# Altium footprint library OCP2PCIe-H-F-4.PcbLib: 32 footprints (part 2 of 2)
Each footprint in its own frame and in the unit in brackets; x right, y up, seen from the top. Pads: shape width x height; smd on the part's side, far side on the other; paste and mask are expansions set on the pad; w line width, h text height; cw(c..) or ccw(c..) is an arc to the next point about the centre after c.
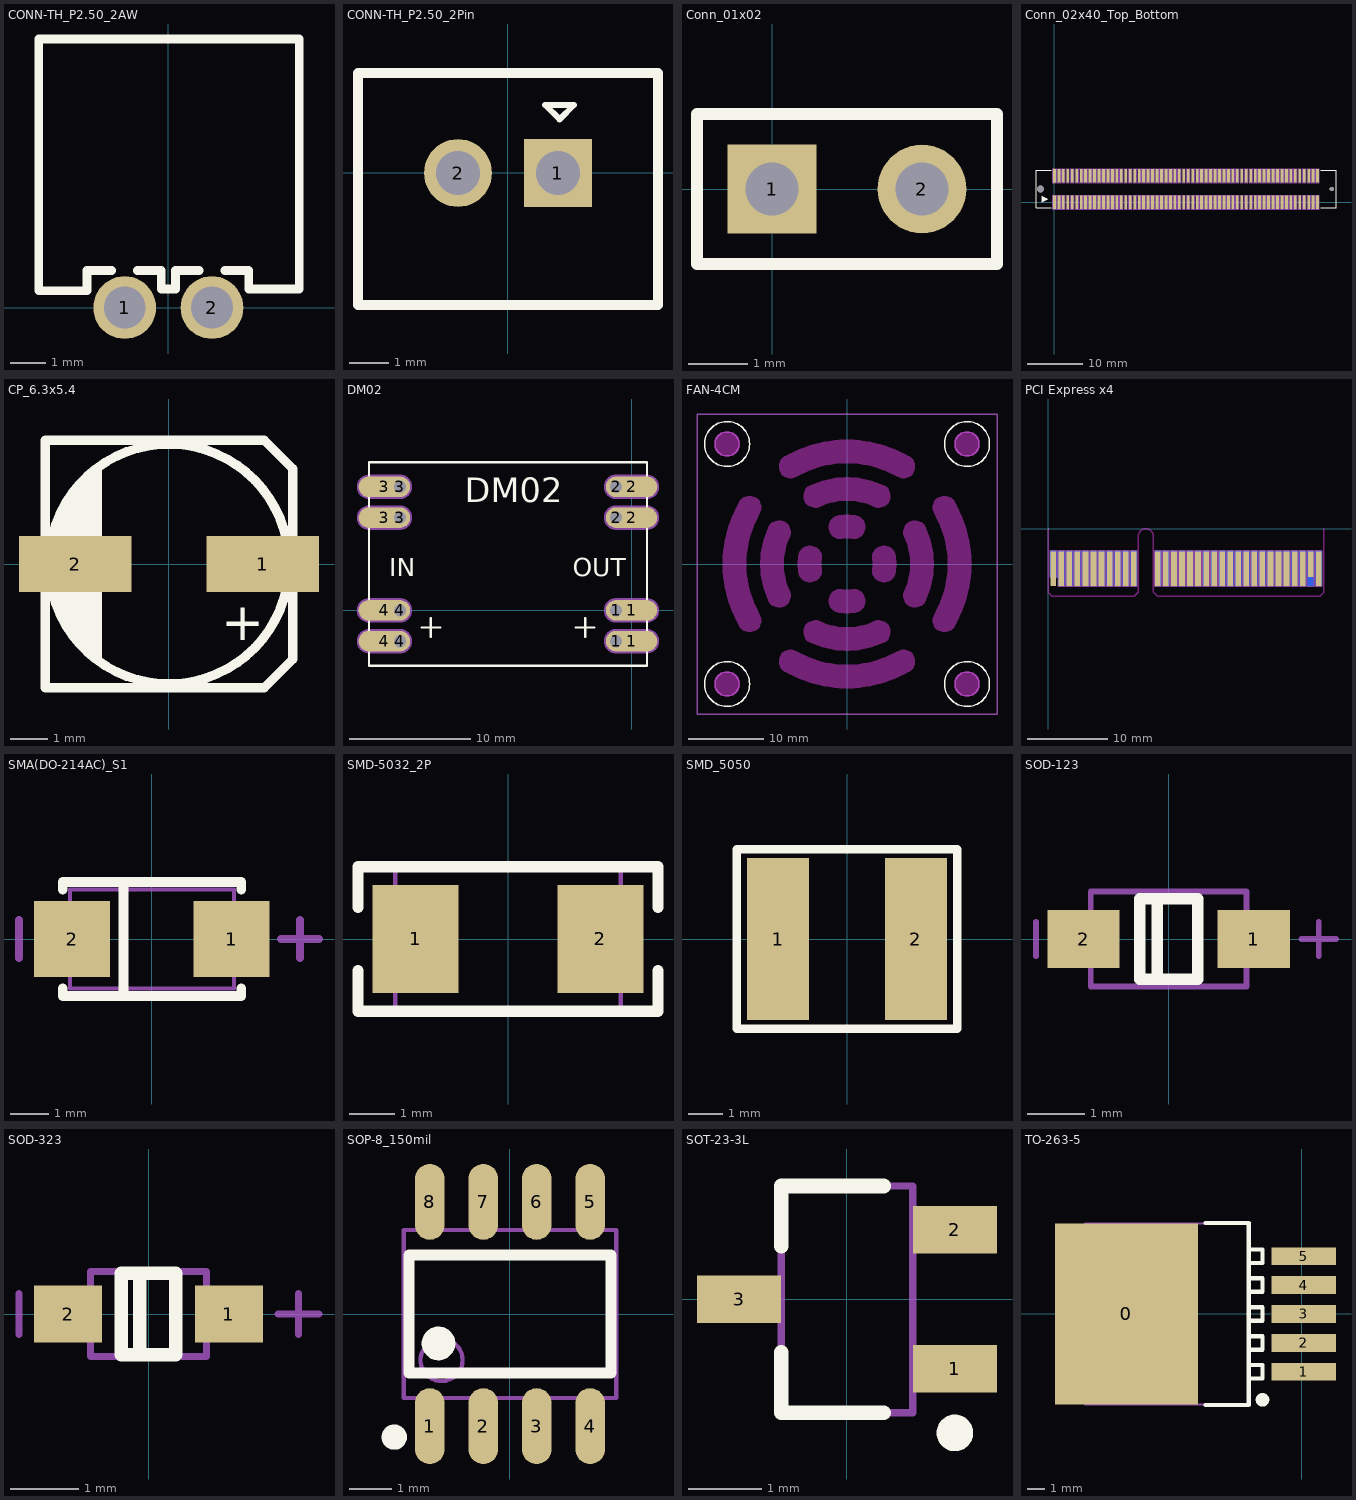
[diagram p1: the footprints below, top view; thin cyan lines are the x and y axes]

## CONN-TH_P2.50_2AW [mm]
pads (2):
  round 1.8 hole 1.199: 1(-1.251,0) 2(1.251,0)
Top Overlay:
  lines w0.254: -3.715,0.483 -2.767,0.483 -2.336,0.483 -2.336,1.067 -1.622,1.067 ; -3.715,0.533 -3.715,7.696 3.753,7.696 3.753,0.533 2.305,0.533 2.305,1.067 1.622,1.067 ; -0.88,1.067 -0.202,1.067 -0.202,0.533 0.204,0.533 0.204,0.991 ; 0.197,1.067 0.88,1.067
3D body "User Library-JST-XH-2_5mm-2.STEP": height 5.95, standoff -3.35, extent -3.686,-0.157 3.814,7.483

## CONN-TH_P2.50_2Pin [mm]
pads (2):
  rect 1.7x1.7 hole 1.1: 1(1.25,0)
  round 1.7 hole 1.1: 2(-1.25,0)
Top Overlay:
  lines w0.15: 0.93,1.7 1.29,1.34 1.65,1.7 0.93,1.7
  lines w0.254: -3.75,-3.3 3.75,-3.3 3.75,2.5 -3.75,2.5 -3.75,-3.3
3D body "User Library-B2B-XH-A.STEP": height 7.1, standoff -3.3, extent -3.733,-3.411 3.667,2.339

## Conn_01x02 [mm] "Connector; Header; 2 Position"
height 3.7
pads (2):
  rect 1.5x1.5 hole 0.9: 1(0,0)
  round 1.5 hole 0.9: 2(2.54,0)
Top Overlay:
  lines w0.2: -1.27,-1.27 -1.27,1.27 3.81,1.27 3.81,-1.27 -1.27,-1.27

## Conn_02x40_Top_Bottom [mm] "Conn_02x40_Top_Bottom"
height 3.7
pads (121):
  rect 0.5x2.4 smd: 1(0,0) 2(0.8,0) 3(1.6,0) 4(2.4,0) 5(3.2,0) 6(4,0) 7(4.8,0) 8(5.6,0) 9(6.4,0) 10(7.2,0) 11(8,0) 12(8.8,0) 13(9.6,0) 14(10.4,0) 15(11.2,0) 16(12,0) 17(12.8,0) 18(13.6,0) 19(14.4,0) 20(15.2,0) 21(16,0) 22(16.8,0) 23(17.6,0) 24(18.4,0) 25(19.2,0) 26(20,0) 27(20.8,0) 28(21.6,0) 29(22.4,0) 30(23.2,0) 31(24,0) 32(24.8,0) 33(25.6,0) 34(26.4,0) 35(27.2,0) 36(28,0) 37(28.8,0) 38(29.6,0) 39(30.4,0) 40(31.2,0) 41(32,0) 42(32.8,0) 43(33.6,0) 44(34.4,0) 45(35.2,0) 46(36,0) 47(36.8,0) 48(37.6,0) 49(38.4,0) 50(39.2,0) 51(40,0) 52(40.8,0) 53(41.6,0) 54(42.4,0) 55(43.2,0) 56(44,0) 57(44.8,0) 58(45.6,0) 59(46.4,0) 60(47.2,0) 61(0,4.8) 61(0,4.8) 62(0.8,4.8) 63(1.6,4.8) 64(2.4,4.8) 65(3.2,4.8) 66(4,4.8) 67(4.8,4.8) 68(5.6,4.8) 69(6.4,4.8) 70(7.2,4.8) 71(8,4.8) 72(8.8,4.8) 73(9.6,4.8) 74(10.4,4.8) 75(11.2,4.8) 76(12,4.8) 77(12.8,4.8) 78(13.6,4.8) 79(14.4,4.8) 80(15.2,4.8) 81(16,4.8) 82(16.8,4.8) 83(17.6,4.8) 84(18.4,4.8) 85(19.2,4.8) 86(20,4.8) 87(20.8,4.8) 88(21.6,4.8) 89(22.4,4.8) 90(23.2,4.8) 91(24,4.8) 92(24.8,4.8) 93(25.6,4.8) 94(26.4,4.8) 95(27.2,4.8) 96(28,4.8) 97(28.8,4.8) 98(29.6,4.8) 99(30.4,4.8) 100(31.2,4.8) 101(32,4.8) 102(32.8,4.8) 103(33.6,4.8) 104(34.4,4.8) 105(35.2,4.8) 106(36,4.8) 107(36.8,4.8) 108(37.6,4.8) 109(38.4,4.8) 110(39.2,4.8) 111(40,4.8) 112(40.8,4.8) 113(41.6,4.8) 114(42.4,4.8) 115(43.2,4.8) 116(44,4.8) 117(44.8,4.8) 118(45.6,4.8) 119(46.4,4.8) 120(47.2,4.8)
via -2.5,2.4 diameter 1.2 hole 1.2
via 49.7,2.4 diameter 0.8 hole 0.8
Top Overlay:
  lines w0.2: -0.6,-1 -3.3,-1 -3.3,5.8 -0.6,5.8 ; 47.801,-1 50.5,-1 50.5,5.8 47.801,5.8
  text "▶" at -2.284,-0.296 h2
Mechanical 3:
  drawing of 480 lines, arcs and shapes, not listed
3D body "5084616-5.stp": height 11.8, standoff -0.45, extent -3.3,-1 50.5,5.8
3D body: height 0.25, standoff 0, extent 8.636,2.413 8.636,2.413

## CP_6.3x5.4 [mm] "贴片铝电解 6.3x5.4"
pads (2):
  rect 3x1.5 smd: 1(2.502,0) 2(-2.502,0)
Top Overlay:
  circle w0.25: c0,0 r3.2
  region: -1.8,2.7 -1.8,-2.7 -2.9,-1.5 -3.2,0 -2.9,1.4
  lines w0.25: -3.302,-3.302 -3.302,3.302 2.54,3.302 3.302,2.54 3.302,-2.54 2.54,-3.302 -3.302,-3.302
  text "+" at 1.397,-2.032 h1
3D body "User Library-CAP SMD SVP 6_3x5_9.STEP": height 5.9, standoff 0, extent -3.65,-3.3 3.65,3.3

## DM02 [mm]
pads (16):
  round 1.7 hole 1: 1(-1.27,-2.54) 1(-1.27,0) 2(-1.27,7.62) 2(-1.27,10.16) 3(-19.05,7.62) 3(-19.05,10.16) 4(-19.05,-2.54) 4(-19.05,0)
  oval 4.24x1.7 smd: 1(0,-2.54) 1(0,0) 2(0,7.62) 2(0,10.16) 3(-20.32,7.62) 3(-20.32,10.16) 4(-20.32,-2.54) 4(-20.32,0)
Top Overlay:
  lines w0.2: -17.272,-1.413 -15.748,-1.413 ; -16.51,-2.175 -16.51,-0.651 ; -4.572,-1.413 -3.048,-1.413 ; -3.81,-2.175 -3.81,-0.651 ; -21.59,-4.54 1.27,-4.54 1.27,12.16 -21.59,12.16 -21.59,-4.54
  text "OUT" at -4.826,2.794 h1.5
  text "IN" at -19.939,2.794 h1.5
  text "DM02" at -13.716,8.89 h2
Mechanical 3:
  drawing of 624 lines, arcs and shapes, not listed

## FAN-4CM [mm] "4cm风扇"
height 10
Top Overlay:
  circle w0.2: c-16,16 r3
  circle w0.2: c16,16 r3
  circle w0.2: c16,-16 r3
  circle w0.2: c-16,-16 r3
Bottom Overlay:
  circle w0.2: c16,-16 r3
  circle w0.2: c16,16 r3
  circle w0.2: c-16,16 r3
  circle w0.2: c-16,-16 r3
Keep-Out Layer:
  drawing of 16 lines, arcs and shapes, not listed
Keep-Out Layer:
  circle w0.2: c16,16 r1.6
  circle w0.2: c16,-16 r1.6
  circle w0.2: c-16,16 r1.6
  circle w0.2: c-16,-16 r1.6
  lines w0.2: -14.289,-8.25 cw(c0,0) -14.289,8.25 cw(c-12.99,7.5) -11.691,6.75 ccw(c0,0) -11.691,-6.75 cw(c-12.99,-7.5) -14.289,-8.25 ; -10.423,-4.86 cw(c0,0) -10.423,4.86 cw(c-9.063,4.226) -7.704,3.592 ccw(c0,0) -7.704,-3.592 cw(c-9.063,-4.226) -10.423,-4.86 ; -8.25,-14.289 ccw(c0,0) 8.25,-14.289 ccw(c7.5,-12.99) 6.75,-11.691 cw(c0,0) -6.75,-11.691 ccw(c-7.5,-12.99) -8.25,-14.289 ; -8.25,14.289 ccw(c-7.5,12.99) -6.75,11.691 cw(c0,0) 6.75,11.691 ccw(c7.5,12.99) 8.25,14.289 ccw(c0,0) -8.25,14.289 ; -6.401,-1.129 cw(c0,0) -6.401,1.129 cw(c-4.924,0.868) -3.447,0.608 ccw(c0,0) -3.447,-0.608 cw(c-4.924,-0.868) -6.401,-1.129 ; -4.86,-10.423 ccw(c0,0) 4.86,-10.423 ccw(c4.226,-9.063) 3.592,-7.704 cw(c0,0) -3.592,-7.704 ccw(c-4.226,-9.063) -4.86,-10.423 ; -4.86,10.423 ccw(c-4.226,9.063) -3.592,7.704 cw(c0,0) 3.592,7.704 ccw(c4.226,9.063) 4.86,10.423 ccw(c0,0) -4.86,10.423 ; -1.129,-6.401 ccw(c0,0) 1.129,-6.401 ccw(c0.868,-4.924) 0.608,-3.447 cw(c0,0) -0.608,-3.447 ccw(c-0.868,-4.924) -1.129,-6.401 ; -1.129,6.401 ccw(c-0.868,4.924) -0.608,3.447 cw(c0,0) 0.608,3.447 ccw(c0.868,4.924) 1.129,6.401 ccw(c0,0) -1.129,6.401 ; 3.447,-0.608 ccw(c0,0) 3.447,0.608 cw(c4.924,0.868) 6.401,1.129 cw(c0,0) 6.401,-1.129 cw(c4.924,-0.868) 3.447,-0.608 ; 7.704,-3.592 ccw(c0,0) 7.704,3.592 cw(c9.063,4.226) 10.423,4.86 cw(c0,0) 10.423,-4.86 cw(c9.063,-4.226) 7.704,-3.592 ; 11.691,-6.75 ccw(c0,0) 11.691,6.75 cw(c12.99,7.5) 14.289,8.25 cw(c0,0) 14.289,-8.25 cw(c12.99,-7.5) 11.691,-6.75
Mechanical 3:
  circle w0.2: c-16,-16 r1.6
  circle w0.2: c16,-16 r1.6
  circle w0.2: c-16,16 r1.6
  circle w0.2: c16,16 r1.6
  lines w0.2: -20,-20 20,-20 20,20 -20,20 -20,-20 ; 16,-16 16,-16
3D body "User Library-40mm x 10mm fan.STEP": height 10.5, standoff 0.5, extent -20.025,-19.975 19.975,20.025

## PCI Express x4 [mm] "PCI Express x4"
height 1
pads (64):
  rect 0.7x3.2 smd far side: A1(0.65,-4.4)
  rect 0.7x4.3 smd far side: A2(1.65,-4.95) A3(2.65,-4.95) A4(3.65,-4.95) A5(4.65,-4.95) A6(5.65,-4.95) A7(6.65,-4.95) A8(7.65,-4.95) A9(8.65,-4.95) A10(9.65,-4.95) A11(10.65,-4.95) A12(13.65,-4.95) A13(14.65,-4.95) A14(15.65,-4.95) A15(16.65,-4.95) A16(17.65,-4.95) A17(18.65,-4.95) A18(19.65,-4.95) A19(20.65,-4.95) A20(21.65,-4.95) A21(22.65,-4.95) A22(23.65,-4.95) A23(24.65,-4.95) A24(25.65,-4.95) A25(26.65,-4.95) A26(27.65,-4.95) A27(28.65,-4.95) A28(29.65,-4.95) A29(30.65,-4.95) A30(31.65,-4.95) A31(32.65,-4.95) A32(33.65,-4.95)
  rect 0.7x4.3 smd: B1(0.65,-4.95) B2(1.65,-4.95) B3(2.65,-4.95) B4(3.65,-4.95) B5(4.65,-4.95) B6(5.65,-4.95) B7(6.65,-4.95) B8(7.65,-4.95) B9(8.65,-4.95) B10(9.65,-4.95) B11(10.65,-4.953) B12(13.65,-4.95) B13(14.65,-4.95) B14(15.65,-4.95) B15(16.65,-4.95) B16(17.65,-4.95) B17(18.65,-4.95) B18(19.65,-4.95) B19(20.65,-4.95) B20(21.65,-4.95) B21(22.65,-4.95) B22(23.65,-4.95) B23(24.65,-4.95) B24(25.65,-4.95) B25(26.65,-4.95) B26(27.65,-4.95) B27(28.65,-4.95) B28(29.65,-4.95) B29(30.65,-4.95) B30(31.65,-4.95) B32(33.65,-4.95)
  rect 0.7x3.2 smd: B31(32.65,-4.4)
Top Solder:
  rectangle: -0.381,-8.763 34.671,-2.896
Bottom Solder:
  rectangle: -0.381,-8.763 34.671,-2.896
Keep-Out Layer:
  lines w0.2: 0,0 0,-7.9 0.5,-8.4 10.7,-8.4 11.2,-7.9 11.2,-0.95 cw(c12.15,-0.95) 13.1,-0.95 13.1,-7.9 13.6,-8.4 33.8,-8.4 34.3,-7.9 34.3,0
Mechanical 3:
  lines w0.2: 0.25,-6.05 0.25,-2.75 1.05,-2.75 1.05,-6.05 0.25,-6.05 ; 1.25,-7.15 1.25,-2.75 2.05,-2.75 2.05,-7.15 1.25,-7.15 ; 2.25,-7.15 2.25,-2.75 3.05,-2.75 3.05,-7.15 2.25,-7.15 ; 3.25,-7.15 3.25,-2.75 4.05,-2.75 4.05,-7.15 3.25,-7.15 ; 4.25,-7.15 4.25,-2.75 5.05,-2.75 5.05,-7.15 4.25,-7.15 ; 5.25,-7.15 5.25,-2.75 6.05,-2.75 6.05,-7.15 5.25,-7.15 ; 6.25,-7.15 6.25,-2.75 7.05,-2.75 7.05,-7.15 6.25,-7.15 ; 7.25,-7.15 7.25,-2.75 8.05,-2.75 8.05,-7.15 7.25,-7.15 ; 8.25,-7.15 8.25,-2.75 9.05,-2.75 9.05,-7.15 8.25,-7.15 ; 9.25,-7.15 9.25,-2.75 10.05,-2.75 10.05,-7.15 9.25,-7.15 ; 10.25,-7.15 10.25,-2.75 11.05,-2.75 11.05,-7.15 10.25,-7.15 ; 13.25,-7.15 13.25,-2.75 14.05,-2.75 14.05,-7.15 13.25,-7.15 ; 14.25,-7.15 14.25,-2.75 15.05,-2.75 15.05,-7.15 14.25,-7.15 ; 15.25,-7.15 15.25,-2.75 16.05,-2.75 16.05,-7.15 15.25,-7.15 ; 16.25,-7.15 16.25,-2.75 17.05,-2.75 17.05,-7.15 16.25,-7.15 ; 17.25,-7.15 17.25,-2.75 18.05,-2.75 18.05,-7.15 17.25,-7.15 ; 18.25,-7.15 18.25,-2.75 19.05,-2.75 19.05,-7.15 18.25,-7.15 ; 19.25,-7.15 19.25,-2.75 20.05,-2.75 20.05,-7.15 19.25,-7.15 ; 20.25,-7.15 20.25,-2.75 21.05,-2.75 21.05,-7.15 20.25,-7.15 ; 21.25,-7.15 21.25,-2.75 22.05,-2.75 22.05,-7.15 21.25,-7.15 ; 22.25,-7.15 22.25,-2.75 23.05,-2.75 23.05,-7.15 22.25,-7.15 ; 23.25,-7.15 23.25,-2.75 24.05,-2.75 24.05,-7.15 23.25,-7.15 ; 24.25,-7.15 24.25,-2.75 25.05,-2.75 25.05,-7.15 24.25,-7.15 ; 25.25,-7.15 25.25,-2.75 26.05,-2.75 26.05,-7.15 25.25,-7.15 ; 26.25,-7.15 26.25,-2.75 27.05,-2.75 27.05,-7.15 26.25,-7.15 ; 27.25,-7.15 27.25,-2.75 28.05,-2.75 28.05,-7.15 27.25,-7.15 ; 28.25,-7.15 28.25,-2.75 29.05,-2.75 29.05,-7.15 28.25,-7.15 ; 29.25,-7.15 29.25,-2.75 30.05,-2.75 30.05,-7.15 29.25,-7.15 ; 30.25,-7.15 30.25,-2.75 31.05,-2.75 31.05,-7.15 30.25,-7.15 ; 31.25,-7.15 31.25,-2.75 32.05,-2.75 32.05,-7.15 31.25,-7.15 ; 32.25,-7.15 32.25,-2.75 33.05,-2.75 33.05,-7.15 32.25,-7.15 ; 33.25,-7.15 33.25,-2.75 34.05,-2.75 34.05,-7.15 33.25,-7.15

## SMA(DO-214AC)_S1 [mm]
height 1.5
pads (2):
  rect 2x2 smd: 1(2.1,0) 2(-2.1,0)
Top Overlay:
  lines w0.254: -2.35,-1.3 -2.35,-1.5 2.35,-1.5 2.35,-1.3 ; -2.35,1.3 -2.35,1.5 2.35,1.5 2.35,1.3 ; -0.75,-1.5 -0.75,1.5
Mechanical 13:
  lines w0.1: -2.16,-1.3 -2.16,1.3 2.16,1.3 2.16,-1.3 -2.16,-1.3
Mechanical 15:
  lines w0.203: -3.5,-0.5 -3.5,0.5 ; 3.4,0 4.4,0 ; 3.9,-0.5 3.9,0.5
3D body "User Library-DO-214AC SMA.STEP": height 2.4, standoff 0, extent -2.587,-1.3 2.613,1.3

## SMD-5032_2P [mm]
height 1.5
pads (2):
  rect 1.9x2.4 smd: 1(-2.05,0) 2(2.05,0)
Top Overlay:
  lines w0.254: -3.325,-0.7 -3.325,-1.6 3.325,-1.6 3.325,-0.7 ; -3.325,0.7 -3.325,1.6 3.325,1.6 3.325,0.7
Mechanical 13:
  lines w0.1: -2.5,-1.6 2.5,-1.6 2.5,1.6 -2.5,1.6 -2.5,-1.6
3D body "User Library-SMD-5032.STEP": height 1.3, standoff 0, extent -2.487,-1.6 2.513,1.6

## SMD_5050 [mm] "贴片电感5.0x5.0"
height 4.7
pads (2):
  rect 1.8x4.7 smd: 1(-2,0) 2(2,0)
Top Overlay:
  lines w0.254: -3.2,-2.6 3.2,-2.6 3.2,2.6 -3.2,2.6 -3.2,-2.6
3D body "SRR4028.stp": height 2.8, standoff 0, extent -2.381,-2.4 2.419,2.4

## SOD-123 [mm]
height 1.5
pads (2):
  rect 1.25x1 smd: 1(1.475,0) 2(-1.475,0)
Top Overlay:
  lines w0.2: -0.2,-0.7 -0.2,0.7 ; -0.5,-0.7 -0.5,0.7 0.5,0.7 0.5,-0.7 -0.5,-0.7
Mechanical 13:
  lines w0.1: -1.35,-0.825 1.35,-0.825 1.35,0.825 -1.35,0.825 -1.35,-0.825
Mechanical 15:
  lines w0.1: -2.3,-0.3 -2.3,0.3 ; 2.3,0 2.9,0 ; 2.6,-0.3 2.6,0.3
3D body "SOD123.STEP": height 1.35, standoff 0, extent -1.85,-0.775 1.85,0.775

## SOD-323 [mm]
height 1.5
pads (2):
  rect 1x0.83 smd: 1(1.18,0) 2(-1.18,0)
Top Overlay:
  lines w0.2: -0.13,-0.6 -0.13,0.6 ; -0.4,-0.6 0.4,-0.6 0.4,0.6 -0.4,0.6 -0.4,-0.6
Mechanical 13:
  lines w0.1: -0.85,-0.625 0.85,-0.625 0.85,0.625 -0.85,0.625 -0.85,-0.625
Mechanical 15:
  lines w0.1: -1.9,-0.3 -1.9,0.3 ; 1.9,0 2.5,0 ; 2.2,-0.3 2.2,0.3
3D body "SOD323.STEP": height 1.1, standoff 0, extent -1.35,-0.625 1.35,0.625

## SOP-8_150mil [mm]
height 1.25
pads (8):
  oval 0.7x1.8 smd: 1(-1.905,-2.663) 2(-0.635,-2.663) 3(0.635,-2.663) 4(1.905,-2.663) 5(1.905,2.663) 6(0.635,2.663) 7(-0.635,2.663) 8(-1.905,2.663)
Top Overlay:
  circle w0.4: c-1.7,-0.7 r0.2
  circle w0.3: c-2.75,-2.925 r0.15
  lines w0.254: -2.4,-1.4 -2.4,1.4 2.4,1.4 2.4,-1.4 -2.4,-1.4
Mechanical 13:
  circle w0.1: c-1.625,-1.095 r0.5
  lines w0.1: -2.525,-1.995 -2.525,1.995 2.525,1.995 2.525,-1.995 -2.525,-1.995
3D body "User Library-SOIC-8-150.STEP": height 1.75, standoff 0, extent -2.5,-3.1 2.5,3.1

## SOT-23-3L [mm] "http://www.aosmd.com/res/packaging_information/SOT-23-3L.pdf"
height 1.25
pads (3):
  rect 1.15x0.65 smd: 1(1.475,-0.95) 2(1.475,0.95) 3(-1.475,0)
Top Overlay:
  circle w0.25: c1.475,-1.825 r0.125
  lines w0.2: -0.9,-0.725 -0.9,-1.55 0.5,-1.55 ; -0.9,0.725 -0.9,1.55 0.5,1.55
Mechanical 13:
  lines w0.1: -0.9,-1.55 0.9,-1.55 0.9,1.55 -0.9,1.55 -0.9,-1.55
3D body "User Library-3-lead sot23-3.STEP": height 1, standoff -0.02, extent -1.286,-1.467 1.19,1.453

## TO-263-5 [mm]
height 1.5
pads (6):
  rect 8.4x10.65 smd: 0(-10.3,0)
  rect 3.8x1.05 smd: 1(0.127,-3.4) 2(0.127,-1.7) 3(0.127,0) 4(0.127,1.7) 5(0.127,3.4)
Top Overlay:
  circle w0.4: c-2.3,-5.05 r0.2
  lines w0.254: -5.65,-5.35 -3.1,-5.35 -3.1,5.35 -5.65,5.35 ; -3.1,-3 -2.3,-3 -2.3,-3.8 -3,-3.8 ; -3.1,-1.3 -2.3,-1.3 -2.3,-2.1 -3,-2.1 ; -3.1,0.4 -2.3,0.4 -2.3,-0.4 -3,-0.4 ; -3.1,2.1 -2.3,2.1 -2.3,1.3 -3,1.3 ; -3.1,3.8 -2.3,3.8 -2.3,3 -3,3
Mechanical 13:
  lines w0.1: -12.75,-5.325 -3.1,-5.325 -3.1,5.325 -12.75,5.325 -12.75,-5.325
3D body "User Library-TO263-5.STEP": height 4.83, standoff 0.03, extent -13.958,-5.041 1.712,4.959